# EAGLE library part A4964EVTR-T (library BLDCBOMv4)
Sensorless Sinusoidal Drive BLDC Controller
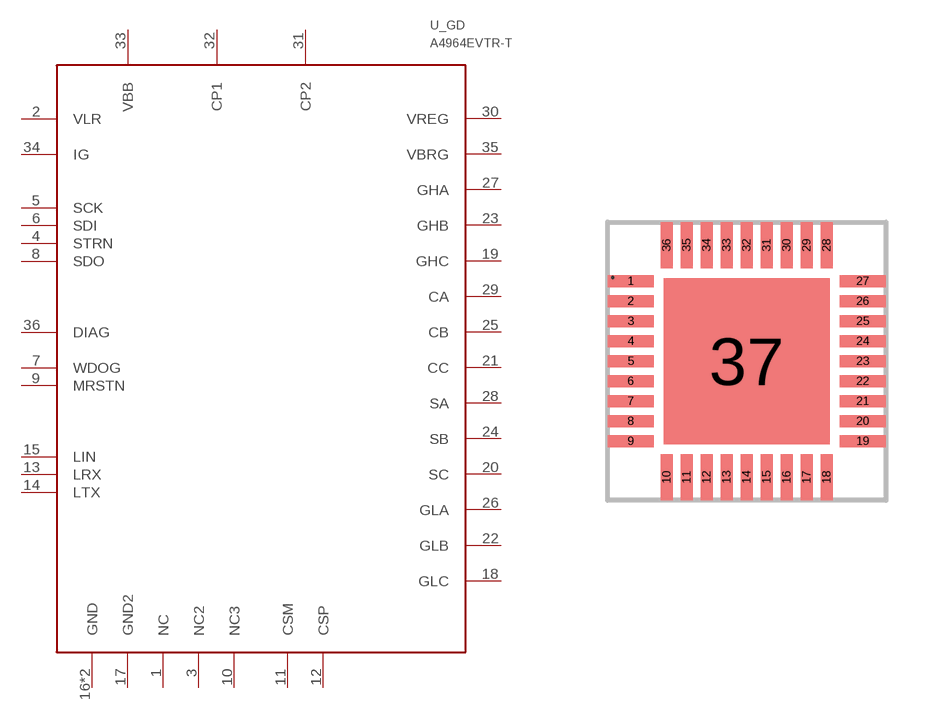
[diagram p0: symbol with the pads of A4964EVTR-T; footprint A4964EVTR-T]

Designator prefix U_GD

## A4964EVTR-T  [A4964EVTR-T]
1  NC
2  VLR
3  NC2
4  STRN
5  SCK
6  SDI
7  WDOG
8  SDO
9  MRSTN
10  NC3
11  CSM
12  CSP
13  LRX
14  LTX
15  LIN
16  GND
17  GND2
18  GLC
19  GHC
20  SC
21  CC
22  GLB
23  GHB
24  SB
25  CB
26  GLA
27  GHA
28  SA
29  CA
30  VREG
31  CP2
32  CP1
33  VBB
34  IG
35  VBRG
36  DIAG
37  GND

## Footprint A4964EVTR-T (pad centres in mm)
smd 1.15 x 0.3: 1 0,0; 2 0,-0.5; 3 0,-1; 4 0,-1.5; 5 0,-2; 6 0,-2.5; 7 0,-3; 8 0,-3.5; 9 0,-4; 19 5.8,-4; 20 5.8,-3.5; 21 5.8,-3; 22 5.8,-2.5; 23 5.8,-2; 24 5.8,-1.5; 25 5.8,-1; 26 5.8,-0.5; 27 5.8,0
smd 0.3 x 1.15: 10 0.9,-4.9; 11 1.4,-4.9; 12 1.9,-4.9; 13 2.4,-4.9; 14 2.9,-4.9; 15 3.4,-4.9; 16 3.9,-4.9; 17 4.4,-4.9; 18 4.9,-4.9; 28 4.9,0.9; 29 4.4,0.9; 30 3.9,0.9; 31 3.4,0.9; 32 2.9,0.9; 33 2.4,0.9; 34 1.9,0.9; 35 1.4,0.9; 36 0.9,0.9
smd 4.15 x 4.15: 37 2.9,-2